# Altium schematic symbol library displays.SchLib: 1 symbol
Pins are listed as number, name and electrical type; pins without a type are passive.

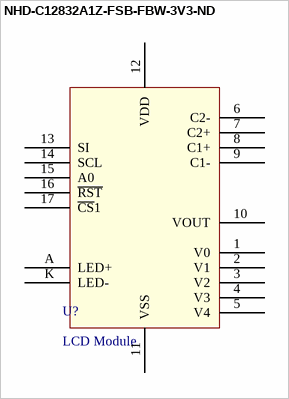
[diagram p0: symbol NHD-C12832A1Z-FSB-FBW-3V3-ND]

## NHD-C12832A1Z-FSB-FBW-3V3-ND
designator U?, comment LCD Module
Manufacturer Part No.: NHD-C12832A1Z-FSB-FBW-3V3; Digi-Key Part No.: NHD-C12832A1Z-FSB-FBW-3V3-ND
footprint NHD-C12832A1Z-FSB-FBW-3V3 (SPI LCD Module)
pins: 1 V0, 2 V1, 3 V2, 4 V3, 5 V4, 6 C2-, 7 C2+, 8 C1+, 9 C1-, 10 VOUT, 11 VSS, 12 VDD, 13 SI, 14 SCL, 15 A0, 16 ~{RST}, 17 ~{CS}1, A LED+, K LED-